# Altium footprint library Air530_Air530Z_Air530H.PcbLib: 1 footprints
Each footprint in its own frame and in the unit in brackets; x right, y up, seen from the top. Pads: shape width x height; smd on the part's side, far side on the other; paste and mask are expansions set on the pad; w line width, h text height; cw(c..) or ccw(c..) is an arc to the next point about the centre after c.
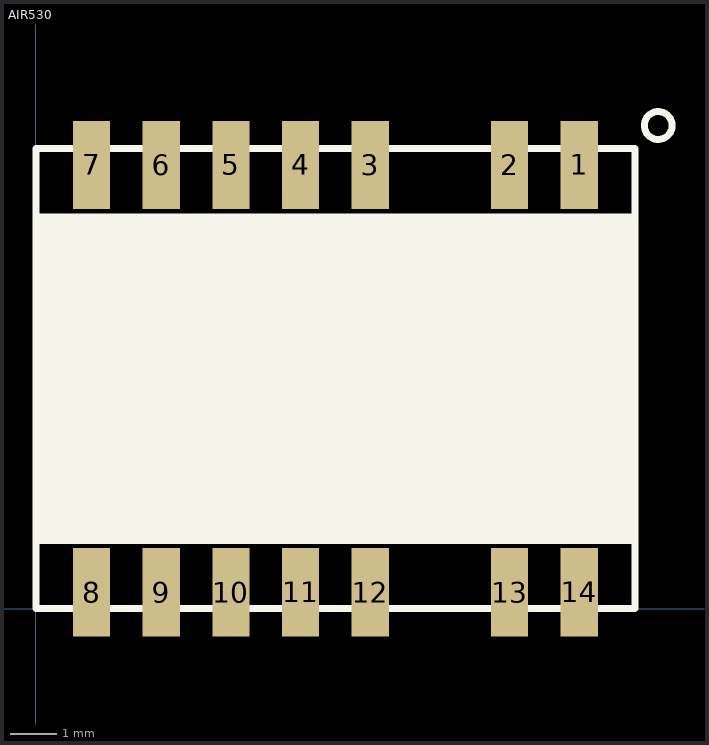
[diagram p0: the footprint, top view; thin cyan lines are the x and y axes]

## AIR530 [mm]
height 2.3
pads (14):
  rect 0.8x1.9 smd: 1(11.7,9.55) 2(10.2,9.55) 3(7.2,9.55) 4(5.7,9.55) 5(4.2,9.55) 6(2.7,9.55) 7(1.2,9.55) 8(1.2,0.35) 9(2.7,0.35) 10(4.2,0.35) 11(5.7,0.35) 12(7.2,0.35) 13(10.2,0.35) 14(11.7,0.35)
Top Overlay:
  circle w0.15: c13.4,10.4 r0.3
  region: 0.05,8.5 12.85,8.5 12.85,1.4 0.05,1.4
  lines w0.15: 0,0 0,9.9 12.9,9.9 12.9,0 0,0